# EAGLE library part GRADCONN-6X2-M-DUAL (library 1zac)
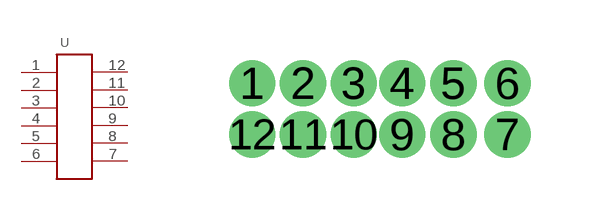
[diagram p12: symbol with the pads of GRADCONN-6X2-M-DUAL; footprint GRADCONN-6X2-M-DUAL]

Designator prefix -

## GRADCONN-6X2-M-DUAL  [GRADCONN-6X2-M-DUAL]
1  P$1
2  P$2
3  P$3
4  P$4
5  P$5
6  P$6
7  P$7
8  P$8
9  P$9
10  P$10
11  P$11
12  P$12

## Footprint GRADCONN-6X2-M-DUAL (pad centres in mm)
drill 0.65 pad 1.016: 1 0,0; 2 1.27,0; 3 2.54,0; 4 3.75,0; 5 5.03,0; 6 6.38,0; 7 6.38,-1.28; 8 5.03,-1.28; 9 3.75,-1.28; 10 2.54,-1.28; 11 1.27,-1.28; 12 0,-1.28